# Altium schematic symbol library BAT54CV,115.SchLib: 1 symbol
Pins are listed as number, name and electrical type; pins without a type are passive.

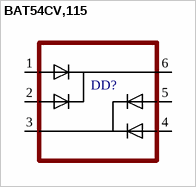
[diagram p0: symbol BAT54CV,115]

## BAT54CV,115
designator DD?
pins: 1, 2, 3, 4, 5, 6